# EAGLE library part HDR-2X36 (library Digilent)
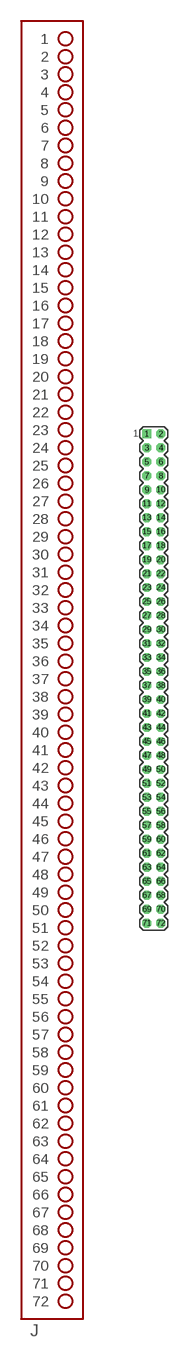
[diagram p0: symbol with the pads of HDR-2X36; footprint HDR-2X36]

Designator prefix J

## HDR-2X36  [HDR-2X36]
1  1  pas
2  2  pas
3  3  pas
4  4  pas
5  5  pas
6  6  pas
7  7  pas
8  8  pas
9  9  pas
10  10  pas
11  11  pas
12  12  pas
13  13  pas
14  14  pas
15  15  pas
16  16  pas
17  17  pas
18  18  pas
19  19  pas
20  20  pas
21  21  pas
22  22  pas
23  23  pas
24  24  pas
25  25  pas
26  26  pas
27  27  pas
28  28  pas
29  29  pas
30  30  pas
31  31  pas
32  32  pas
33  33  pas
34  34  pas
35  35  pas
36  36  pas
37  37  pas
38  38  pas
39  39  pas
40  40  pas
41  41  pas
42  42  pas
43  43  pas
44  44  pas
45  45  pas
46  46  pas
47  47  pas
48  48  pas
49  49  pas
50  50  pas
51  51  pas
52  52  pas
53  53  pas
54  54  pas
55  55  pas
56  56  pas
57  57  pas
58  58  pas
59  59  pas
60  60  pas
61  61  pas
62  62  pas
63  63  pas
64  64  pas
65  65  pas
66  66  pas
67  67  pas
68  68  pas
69  69  pas
70  70  pas
71  71  pas
72  72  pas

## Footprint HDR-2X36 (pad centres in mm)
drill 1.067 square: 1 -1.27,45.72
drill 1.067 octagon: 2 1.27,45.72; 3 -1.27,43.18; 4 1.27,43.18; 5 -1.27,40.64; 6 1.27,40.64; 7 -1.27,38.1; 8 1.27,38.1; 9 -1.27,35.56; 10 1.27,35.56; 11 -1.27,33.02; 12 1.27,33.02; 13 -1.27,30.48; 14 1.27,30.48; 15 -1.27,27.94; 16 1.27,27.94; 17 -1.27,25.4; 18 1.27,25.4; 19 -1.27,22.86; 20 1.27,22.86; 21 -1.27,20.32; 22 1.27,20.32; 23 -1.27,17.78; 24 1.27,17.78; 25 -1.27,15.24; 26 1.27,15.24; 27 -1.27,12.7; 28 1.27,12.7; 29 -1.27,10.16; 30 1.27,10.16; 31 -1.27,7.62; 32 1.27,7.62; 33 -1.27,5.08; 34 1.27,5.08; 35 -1.27,2.54; 36 1.27,2.54; 37 -1.27,0; 38 1.27,0; 39 -1.27,-2.54; 40 1.27,-2.54; 41 -1.27,-5.08; 42 1.27,-5.08; 43 -1.27,-7.62; 44 1.27,-7.62; 45 -1.27,-10.16; 46 1.27,-10.16; 47 -1.27,-12.7; 48 1.27,-12.7; 49 -1.27,-15.24; 50 1.27,-15.24; 51 -1.27,-17.78; 52 1.27,-17.78; 53 -1.27,-20.32; 54 1.27,-20.32; 55 -1.27,-22.86; 56 1.27,-22.86; 57 -1.27,-25.4; 58 1.27,-25.4; 59 -1.27,-27.94; 60 1.27,-27.94; 61 -1.27,-30.48; 62 1.27,-30.48; 63 -1.27,-33.02; 64 1.27,-33.02; 65 -1.27,-35.56; 66 1.27,-35.56; 67 -1.27,-38.1; 68 1.27,-38.1; 69 -1.27,-40.64; 70 1.27,-40.64; 71 -1.27,-43.18; 72 1.27,-43.18